# EAGLE library part RWS-434 (library Recon)
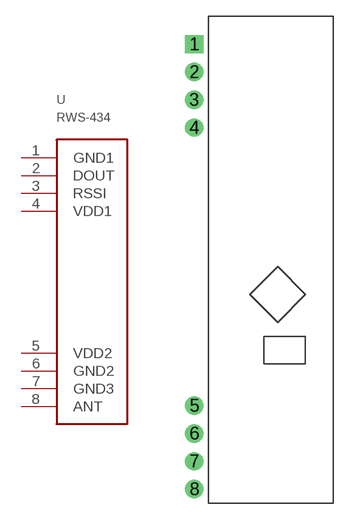
[diagram p7: symbol with the pads of RWS_434; footprint RWS_434]

Designator prefix -

## RWS-434  [RWS_434]
1  GND1
2  DOUT
3  RSSI
4  VDD1
5  VDD2
6  GND2
7  GND3
8  ANT

## Footprint RWS_434 (pad centres in mm)
drill 0.813 pad 1.676 square: 1 -5.08,27.94
drill 0.813 pad 1.676 round: 2 -5.08,25.4; 3 -5.08,22.86; 4 -5.08,20.32; 5 -5.08,-5.08; 6 -5.08,-7.62; 7 -5.08,-10.16; 8 -5.08,-12.7